# Altium footprint library SOD323F.PcbLib: 1 footprints
Each footprint in its own frame and in the unit in brackets; x right, y up, seen from the top. Pads: shape width x height; smd on the part's side, far side on the other; paste and mask are expansions set on the pad; w line width, h text height; cw(c..) or ccw(c..) is an arc to the next point about the centre after c.
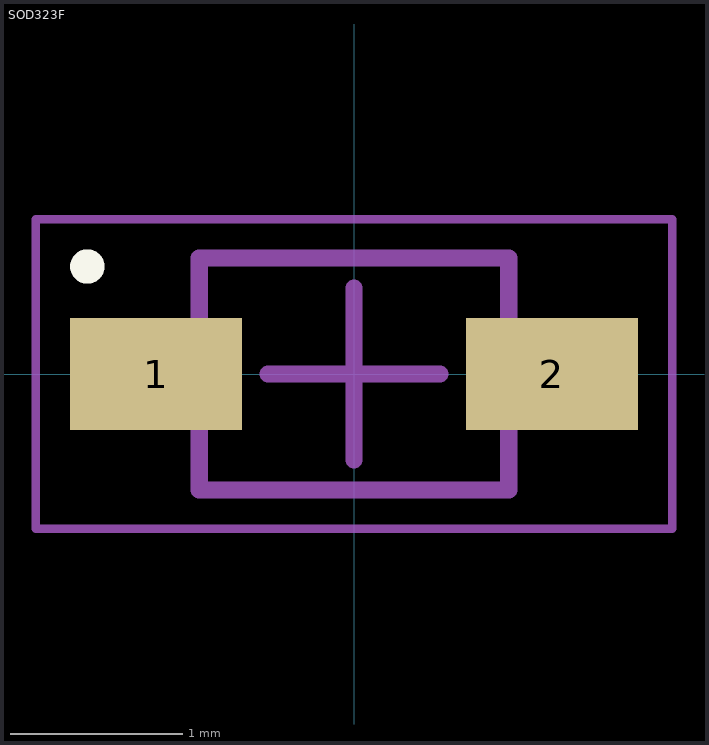
[diagram p0: the footprint, top view; thin cyan lines are the x and y axes]

## SOD323F [mm] "SODFL, 2-Leads, Body 1.25x2.50mm, IPC Low Density"
height 0.8
pads (2):
  rect 1x0.65 smd: 1(-1.15,0) 2(1.15,0)
Top Overlay:
  circle w0.1: c-1.55,0.625 r0.05
Mechanical 13:
  lines w0.1: -0.9,-0.675 0.9,-0.675 0.9,0.675 -0.9,0.675 -0.9,-0.675
Mechanical 15:
  lines w0.05: -1.85,-0.9 1.85,-0.9 1.85,0.9 -1.85,0.9 -1.85,-0.9
  lines w0.1: -0.5,0 0.5,0 ; 0,-0.5 0,0.5
3D body "SOD323F.step": height 0.8, standoff 0, extent -1.25,-0.675 1.25,0.675